# Altium schematic symbol library Mounting_Hole.SchLib: 1 symbol
Pins are listed as number, name and electrical type; pins without a type are passive.

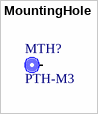
[diagram p0: symbol MountingHole]

## MountingHole
designator MTH?, comment PTH-M3
footprint Mounting Hole
pins: 1